# Altium footprint library PASSIVE_THD.PCBLIB: 248 footprints (part 1 of 16)
Each footprint in its own frame and in the unit in brackets; x right, y up, seen from the top. Pads: shape width x height; smd on the part's side, far side on the other; paste and mask are expansions set on the pad; w line width, h text height; cw(c..) or ccw(c..) is an arc to the next point about the centre after c.
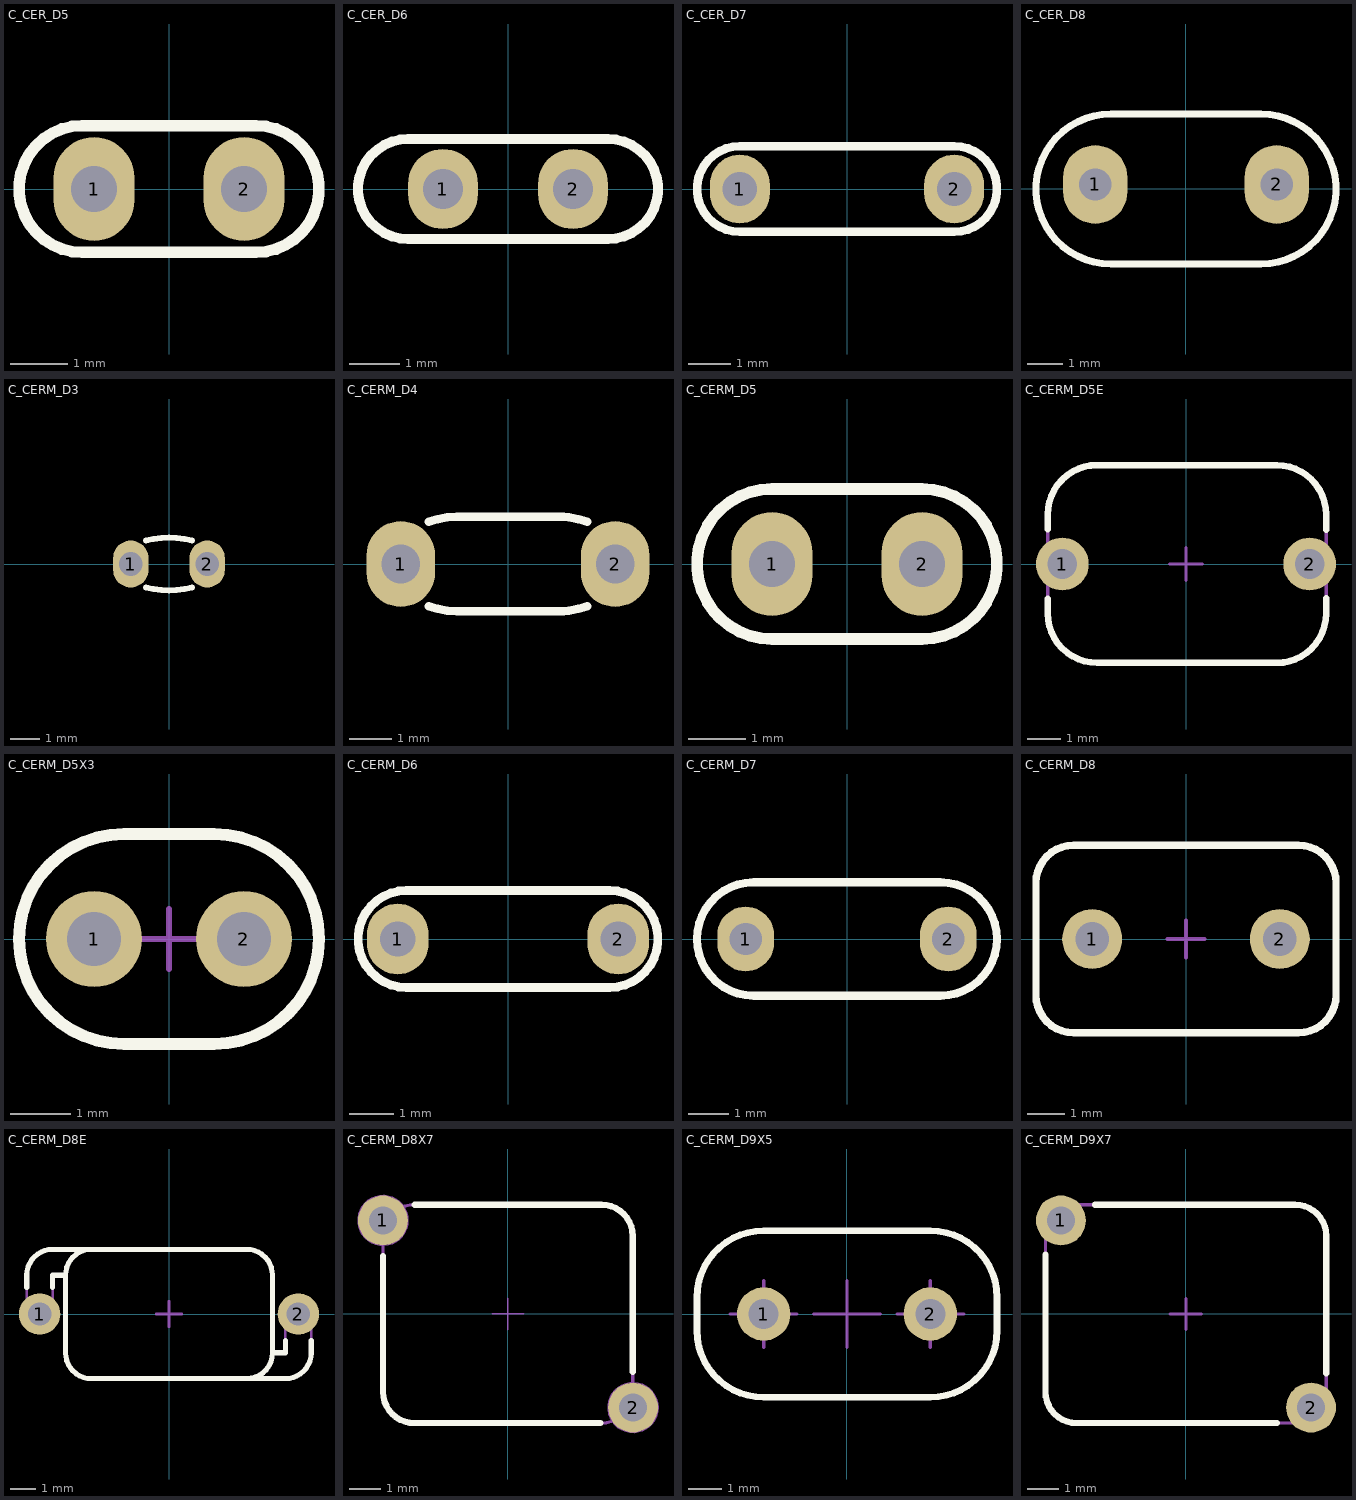
[diagram p0: the footprints below, top view; thin cyan lines are the x and y axes]

## C_CER_D5 [mm] "CAP, CER, D:5mm, pitch: 2.5mm"
height 6.5
pads (2):
  oval 1.4x1.8 hole 0.8: 1(-1.3,0) 2(1.3,0)
TopOverlay:
  lines w0.2: -1.5,-1.1 cw(c-1.5,0) -1.5,1.1 1.5,1.1 cw(c1.5,0) 1.5,-1.1 -1.5,-1.1
3D body "Ceramic Capacitor 5x3_75mm.step": height 5.45, standoff -3.5, extent -2.458,-1 2.459,1

## C_CER_D6 [mm] "CAP, CER MULTILAYER, 5.8X1.7mm, pitch: 2.5mm"
height 6.5
pads (2):
  oval 1.4x1.6 hole 0.8 mask+0.075: 1(-1.3,0) 2(1.3,0)
TopOverlay:
  lines w0.2: -2,-1 cw(c-2,0) -2,1 2,1 cw(c2,0) 2,-1 -2,-1
3D body "Cap 100n.STEP": height 6.92, standoff -1, extent -2.918,-0.848 2.921,0.848

## C_CER_D7 [mm] "CAP, CER MULTILAYER, 7.0X1.7mm, pitch: 5.0mm"
height 6.5
pads (2):
  oval 1.4x1.6 hole 0.8 mask+0.075: 1(-2.5,0) 2(2.5,0)
TopOverlay:
  lines w0.2: -2.5,-1 cw(c-2.5,0) -2.5,1 2.5,1 cw(c2.5,0) 2.5,-1 -2.5,-1
3D body "Cap 5mm Adasi.STEP": height 0, standoff -8.5, extent -3.499,-0.848 3.5,0.848

## C_CER_D8 [mm] "CAP, CER, D: 8.3mm, pitch: 5.08mm"
height 15
pads (2):
  oval 1.8x2.2 hole 0.9: 1(-2.54,0.127) 2(2.54,0.127)
TopOverlay:
  lines w0.2: 2.099,2.1 cw(c2.099,0) 2.099,-2.1 -2.099,-2.1 cw(c-2.099,0) -2.099,2.1 2.099,2.1
3D body "C224_D8.3mm_P5mm.SLDPRT": height 9.14, standoff -3, extent -4.15,-2.039 4.15,2

## C_CERM_D3 [mm] "CAP, CER MULTILAYER, D:3.5mm, pitch: 2.54mm"
height 5.5
pads (2):
  oval 1.2x1.6 hole 0.8: 1(-1.3,0) 2(1.3,0)
TopOverlay:
  lines w0.2: -0.776,-0.798 ccw(c0,2.1) 0.776,-0.798 ; -0.776,0.798 cw(c0,-2.1) 0.776,0.798
3D body "User Library-Cer-Cap2 (3_5x1_5).step": height 4, standoff -2.5, extent -1.75,-0.751 1.75,0.75

## C_CERM_D4 [mm] "CAP, CER MULTILAYER, 4.2X2.0mm, pitch: 5.0mm, TDK FK24"
height 5.5
pads (2):
  oval 1.6x2 hole 0.9: 1(-2.5,0) 2(2.5,0)
TopOverlay:
  lines w0.2: -1.85,-0.985 ccw(c-1.2,0.8) -1.2,-1.1 1.3,-1.1 ; -1.85,0.985 cw(c-1.2,-0.8) -1.2,1.1 1.3,1.1 ; 1.2,-1.1 ccw(c1.2,0.8) 1.85,-0.985 ; 1.2,1.1 cw(c1.2,-0.8) 1.85,0.985
3D body "TDK FK24 ceramic capacitor.STEP": height 5.47, standoff -2.54, extent -2.797,-1.003 2.798,1.003

## C_CERM_D5 [mm] "CAP, CER MULTILAYER, 5.0X2.5mm, pitch: 2.5mm, RAD0.1"
height 6.5
pads (2):
  oval 1.4x1.8 hole 0.8: 1(-1.3,0) 2(1.3,0)
TopOverlay:
  lines w0.2: -1.3,-1.3 cw(c-1.3,0) -1.3,1.3 1.3,1.3 cw(c1.3,0) 1.3,-1.3 -1.3,-1.3
3D body "Capacitor ceramico 0_2in pitch.step": height 5.5, standoff -3.33, extent -2.75,-1.25 2.75,1.25

## C_CERM_D5E [mm] "CAP, CER, High Voltage MultiLayer"
height 8
pads (2):
  round 1.6 hole 0.9: 1(-3.75,0) 2(3.75,0)
TopOverlay:
  lines w0.2: -4.194,-1.061 -4.194,-1.497 ccw(c-2.694,-1.497) -2.695,-2.997 2.749,-2.999 ccw(c2.75,-1.499) 4.25,-1.499 4.25,-1.036 ; -4.194,1.061 -4.194,1.503 cw(c-2.694,1.503) -2.694,3.003 2.751,3.001 cw(c2.75,1.501) 4.25,1.501 4.25,1.036
Mechanical8:
  lines w0.1: -4.25,0 -3.75,0 ; -3.75,-0.5 -3.75,0 ; -3.75,0.5 -3.75,0 ; -3.25,0 -3.75,0 ; -0.5,0 0,0 ; 0,-0.5 0,0 ; 0,0.5 0,0 ; 0.5,0 0,0 ; 3.25,0 3.75,0 ; 3.75,-0.5 3.75,0 ; 3.75,0.5 3.75,0 ; 4.25,0 3.75,0
Mechanical14:
  lines w0.1: -4.194,-1.497 ccw(c-2.694,-1.497) -2.695,-2.997 2.749,-2.999 ccw(c2.75,-1.499) 4.25,-1.499 4.25,1.501 ccw(c2.75,1.501) 2.751,3.001 -2.694,3.003 ccw(c-2.694,1.503) -4.194,1.503 -4.194,-1.497
3D body "CAPRB_MURATA_DEA1X3F100JP3A.stp": height 8, standoff -3.5, extent -4.193,-3.01 4.193,3.009

## C_CERM_D5X3 [mm] "CAP, CER,"
height 6.5
pads (2):
  round 1.6 hole 0.9: 1(-1.25,0) 2(1.25,0)
TopOverlay:
  lines w0.2: -0.75,-1.75 cw(c-0.75,0) -0.75,1.75 0.75,1.75 cw(c0.75,0) 0.75,-1.75 -0.75,-1.75
Mechanical8:
  lines w0.1: -1.75,0 -1.25,0 ; -1.25,-0.5 -1.25,0 ; -1.25,0.5 -1.25,0 ; -0.75,0 -1.25,0 ; -0.5,0 0,0 ; 0,-0.5 0,0 ; 0,0.5 0,0 ; 0.5,0 0,0 ; 0.75,0 1.25,0 ; 1.25,-0.5 1.25,0 ; 1.25,0.5 1.25,0 ; 1.75,0 1.25,0
Mechanical14:
  lines w0.1: -0.75,-1.75 cw(c-0.75,0) -0.75,1.75 0.75,1.75 cw(c0.75,0) 0.75,-1.75 -0.75,-1.75
3D body "CAPRB_VISHAY_D229C20C0JH63L2R.stp": height 6.5, standoff -3.8, extent -2.5,-1.75 2.5,1.75

## C_CERM_D6 [mm] "CAP, CER MULTILAYER, 6X2mm, pitch: 5mm"
height 6.5
pads (2):
  oval 1.4x1.6 hole 0.8 mask+0.075: 1(-2.5,0) 2(2.5,0)
TopOverlay:
  lines w0.2: -2.3,-1.1 cw(c-2.3,0) -2.3,1.1 2.3,1.1 cw(c2.3,0) 2.3,-1.1 -2.3,-1.1
3D body "User Library-Disc_CAP d6x3_5_5mm.step": height 8.1, standoff -2.02, extent -3,-1.05 3,1.05

## C_CERM_D7 [mm] "CAP, CER MULTILAYER, 7.0X2.6mm, pitch: 5.0mm"
height 6.5
pads (2):
  oval 1.4x1.6 hole 0.8 mask+0.075: 1(-2.5,0) 2(2.5,0)
TopOverlay:
  lines w0.2: -2.3,-1.4 cw(c-2.3,0) -2.3,1.4 2.3,1.4 cw(c2.3,0) 2.3,-1.4 -2.3,-1.4
3D body "User Library-CAPML200 (2_5x6_6).step": height 9.64, standoff -3.27, extent -3.537,-1.3 3.537,1.3

## C_CERM_D8 [mm] "CAP, CER, High Voltage MultiLayer"
height 11
pads (2):
  round 1.6 hole 0.9: 1(-2.5,0) 2(2.5,0)
TopOverlay:
  lines w0.2: -4,-1.5 ccw(c-3,-1.5) -3,-2.5 3,-2.5 ccw(c3,-1.5) 4,-1.5 4,1.5 ccw(c3,1.5) 3,2.5 -3,2.5 ccw(c-3,1.5) -4,1.5 -4,-1.5
Mechanical8:
  lines w0.1: -3,0 -2.5,0 ; -2.5,-0.5 -2.5,0 ; -2.5,0.5 -2.5,0 ; -2,0 -2.5,0 ; -0.5,0 0,0 ; 0,-0.5 0,0 ; 0,0.5 0,0 ; 0.5,0 0,0 ; 2,0 2.5,0 ; 2.5,-0.5 2.5,0 ; 2.5,0.5 2.5,0 ; 3,0 2.5,0
Mechanical14:
  lines w0.1: -4,-1.5 ccw(c-3,-1.5) -3,-2.5 3,-2.5 ccw(c3,-1.5) 4,-1.5 4,1.5 ccw(c3,1.5) 3,2.5 -3,2.5 ccw(c-3,1.5) -4,1.5 -4,-1.5
3D body "CAPRB_MURATA_DE2E3KY222MA2BM01F.stp": height 11, standoff -3.6, extent -4,-2.5 4,2.5

## C_CERM_D8E [mm] "CAP, CER, High Voltage MultiLayer"
height 12
pads (2):
  round 1.6 hole 0.9: 1(-5,0) 2(5,0)
TopOverlay:
  lines w0.2: -5.5,1.036 -5.5,1.5 cw(c-4.5,1.5) -4.5,2.5 -2.772,2.5 ; -4.5,1.036 -4.5,1.5 -4,1.5 ; 2.772,-2.5 4.5,-2.5 ccw(c4.5,-1.5) 5.5,-1.5 5.5,-1.036 ; 4.5,-1.036 4.5,-1.5 4,-1.5 ; -4,1.5 cw(c-3,1.5) -3,2.5 3,2.5 cw(c3,1.5) 4,1.5 4,-1.5 ; -4,1.5 -4,-1.5 ccw(c-3,-1.5) -3,-2.5 3,-2.5 ccw(c3,-1.5) 4,-1.5
Mechanical8:
  lines w0.1: -5.5,0 -5,0 ; -5,-0.5 -5,0 ; -5,0.5 -5,0 ; -4.5,0 -5,0 ; -0.5,0 0,0 ; 0,-0.5 0,0 ; 0,0.5 0,0 ; 0.5,0 0,0 ; 4.5,0 5,0 ; 5,-0.5 5,0 ; 5,0.5 5,0 ; 5.5,0 5,0
Mechanical14:
  lines w0.1: -2.772,2.5 -4.5,2.5 ccw(c-4.5,1.5) -5.5,1.5 -5.5,0 ccw(c-5,0) -4.5,0 -4.5,1.5 -4,1.5 ; 2.772,-2.5 4.5,-2.5 ccw(c4.5,-1.5) 5.5,-1.5 5.5,0 ccw(c5,0) 4.5,0 4.5,-1.5 4,-1.5 ; -4,1.5 cw(c-3,1.5) -3,2.5 3,2.5 cw(c3,1.5) 4,1.5 4,-1.5 ; -4,1.5 -4,-1.5 ccw(c-3,-1.5) -3,-2.5 3,-2.5 ccw(c3,-1.5) 4,-1.5
3D body "CAPRB1000W60L800T500H1200.stp": height 12, standoff -3.6, extent -5.5,-2.5 5.5,2.5

## C_CERM_D8X7 [mm] "CAP, CER, High Voltage MultiLayer"
height 11
pads (2):
  round 1.6 hole 0.9: 1(-4.004,2.995) 2(4.011,-3.001)
TopOverlay:
  lines w0.2: -3.999,1.845 -4,-2.5 ccw(c-3,-2.5) -3,-3.5 2.964,-3.5 ; -2.981,3.5 3,3.5 cw(c3,2.5) 4,2.5 4,-1.851
Mechanical8:
  circle w0.05: c4.011,-3.001 r0.8
  circle w0.05: c4.011,-3.001 r0.45
  circle w0.05: c-4.004,2.995 r0.8
  circle w0.05: c-4.004,2.995 r0.45
  lines w0.05: -4.504,2.995 -4.004,2.995 ; -4.004,2.495 -4.004,2.995 ; -4.004,3.495 -4.004,2.995 ; -3.504,2.995 -4.004,2.995 ; -0.5,0 0,0 ; 0,-0.5 0,0 ; 0,0.5 0,0 ; 0.5,0 0,0 ; 3.511,-3.001 4.011,-3.001 ; 4.011,-3.501 4.011,-3.001 ; 4.011,-2.501 4.011,-3.001 ; 4.511,-3.001 4.011,-3.001
Mechanical14:
  lines w0.1: -4,-2.5 ccw(c-3,-2.5) -3,-3.5 3,-3.5 ccw(c3,-2.5) 4,-2.5 4,2.5 ccw(c3,2.5) 3,3.5 -3,3.5 ccw(c-3,2.5) -4,2.5 -4,-2.5
3D body "CAPRB_MURATA_DEC1X3J150JC4B.stp": height 11, standoff -3.8, extent -4.503,-3.5 4.504,3.5

## C_CERM_D9X5 [mm] "CAP, CER, High Voltage MultiLayer"
height 12
pads (2):
  round 1.6 hole 0.9: 1(-2.5,0) 2(2.5,0)
TopOverlay:
  lines w0.2: -4.5,-0.5 ccw(c-2.5,-0.5) -2.5,-2.5 2.5,-2.5 ccw(c2.5,-0.5) 4.5,-0.5 4.5,0.5 ccw(c2.5,0.5) 2.5,2.5 -2.5,2.5 ccw(c-2.5,0.5) -4.5,0.5 -4.5,-0.5
Mechanical8:
  lines w0.1: -3.5,0 -2.5,0 ; -2.5,-1 -2.5,0 ; -2.5,1 -2.5,0 ; -1.5,0 -2.5,0 ; -1,0 0,0 ; 0,-1 0,0 ; 0,1 0,0 ; 1,0 0,0 ; 1.5,0 2.5,0 ; 2.5,-1 2.5,0 ; 2.5,1 2.5,0 ; 3.5,0 2.5,0
Mechanical14:
  lines w0.1: -4.5,-0.5 ccw(c-2.5,-0.5) -2.5,-2.5 2.5,-2.5 ccw(c2.5,-0.5) 4.5,-0.5 4.5,0.5 ccw(c2.5,0.5) 2.5,2.5 -2.5,2.5 ccw(c-2.5,0.5) -4.5,0.5 -4.5,-0.5
3D body "CAPRB_MURATA_DEBF33D472ZN2A.stp": height 11.98, standoff -3.8, extent -4.485,-2.4 4.48,2.4

## C_CERM_D9X7 [mm] "CAP, CER, High Voltage MultiLayer"
height 12
pads (2):
  round 1.6 hole 0.9: 1(-4.004,2.995) 2(4.011,-3.001)
TopOverlay:
  lines w0.2: -4.5,1.903 -4.5,-2.5 ccw(c-3.5,-2.5) -3.5,-3.5 2.92,-3.5 ; -2.915,3.5 3.5,3.5 cw(c3.5,2.5) 4.5,2.5 4.5,-1.905
Mechanical8:
  lines w0.1: -4.504,2.995 -4.004,2.995 ; -4.004,2.495 -4.004,2.995 ; -4.004,3.495 -4.004,2.995 ; -3.504,2.995 -4.004,2.995 ; -0.5,0 0,0 ; 0,-0.5 0,0 ; 0,0.5 0,0 ; 0.5,0 0,0 ; 3.511,-3.001 4.011,-3.001 ; 4.011,-3.501 4.011,-3.001 ; 4.011,-2.501 4.011,-3.001 ; 4.511,-3.001 4.011,-3.001
Mechanical14:
  lines w0.1: -4.5,-2.5 ccw(c-3.5,-2.5) -3.5,-3.5 3.5,-3.5 ccw(c3.5,-2.5) 4.5,-2.5 4.5,2.5 ccw(c3.5,2.5) 3.5,3.5 -3.5,3.5 ccw(c-3.5,2.5) -4.5,2.5 -4.5,-2.5
3D body "CAPRB_MURATA_DEC1X3J220JC4B.stp": height 12, standoff -3.8, extent -4.509,-3.5 4.51,3.501